# Altium footprint library con-phoenix-508.PCBLIB: 90 footprints (part 3 of 6)
Each footprint in its own frame and in the unit in brackets; x right, y up, seen from the top. Pads: shape width x height; smd on the part's side, far side on the other; paste and mask are expansions set on the pad; w line width, h text height; cw(c..) or ccw(c..) is an arc to the next point about the centre after c.
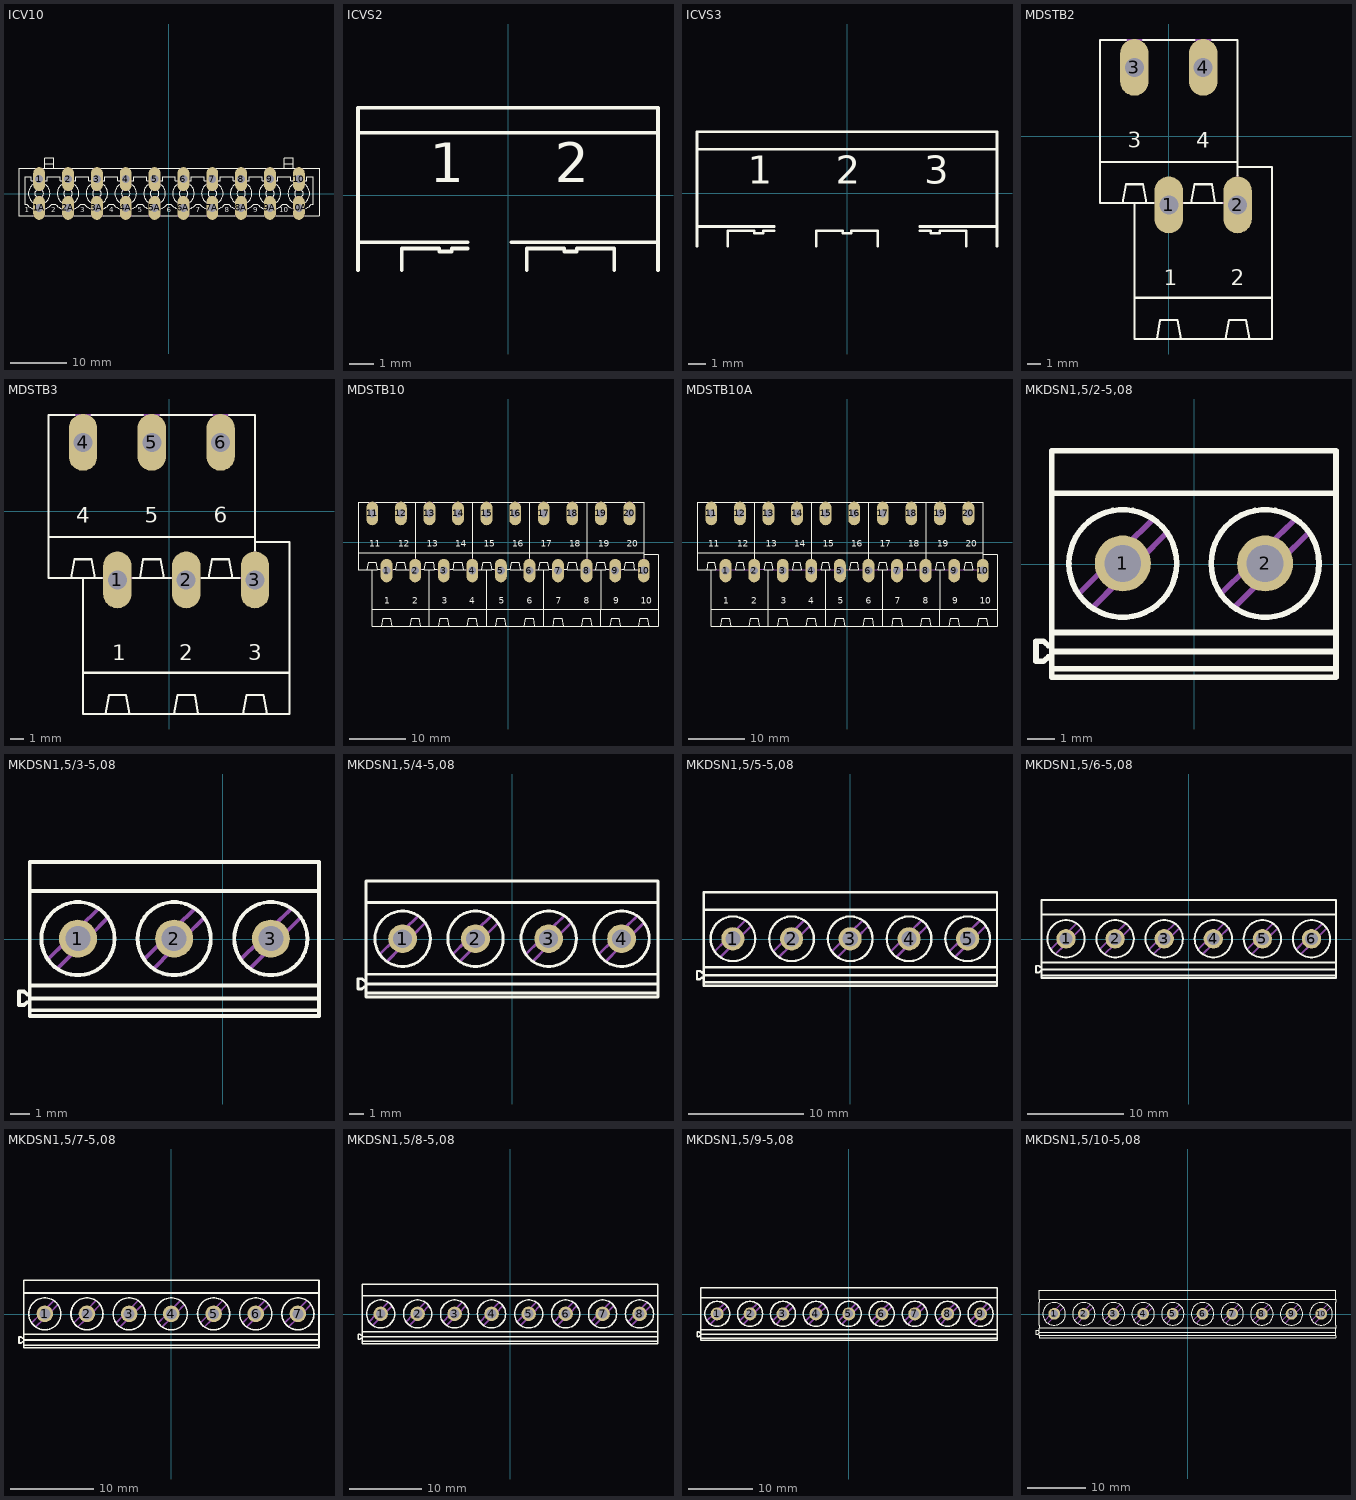
[diagram p2: the footprints below, top view; thin cyan lines are the x and y axes]

## ICV10 [mil]
pads (20):
  oval 82.5x165 hole 55: 1(-900,100) 1A(-900,-100) 2(-700,100) 2A(-700,-100) 3(-500,100) 3A(-500,-100) 4(-300,100) 4A(-300,-100) 5(-100,100) 5A(-100,-100) 6(100,100) 6A(100,-100) 7(300,100) 7A(300,-100) 8(500,100) 8A(500,-100) 9(700,100) 9A(700,-100) 10(900,100) 10A(900,-100)
Top Overlay:
  drawing of 164 lines, arcs and shapes, not listed
  text "1" at -1000,-145 h62
  text "2" at -815,-145 h62
  text "3" at -615,-145 h62
  text "4" at -415,-145 h62
  text "5" at -215,-145 h62
  text "6" at -15,-145 h62
  text "7" at 185,-145 h62
  text "8" at 385,-145 h62
  text "9" at 585,-145 h62
  text "10" at 765,-145 h62
Courtyard Bottom:
  lines w6: -943,-155 -857,-155 ; -943,-106.66 ccw(c-900,0) -857,-106.66 ; -943,-61.45 ccw(c-900,0) -857,-61.45 ; -943,62 cw(c-900,0.55) -857,62 ; -943,90 -857,90 ; -926,175 -874,175 ; -921.71,-20.71 ccw(c-900,0) -878.29,-20.71 ; -921.71,21 cw(c-900,0.29) -878.29,21 ; -743,-155 -657,-155 ; -743,-106.66 ccw(c-700,0) -657,-106.66 ; -743,-61.45 ccw(c-700,0) -657,-61.45 ; -743,62 cw(c-700,0.55) -657,62 ; -743,90 -657,90 ; -726,175 -674,175 ; -721.71,-20.71 ccw(c-700,0) -678.29,-20.71 ; -721.71,21 cw(c-700,0.29) -678.29,21 ; -543,-155 -457,-155 ; -543,-106.66 ccw(c-500,0) -457,-106.66 ; -543,-61.45 ccw(c-500,0) -457,-61.45 ; -543,62 cw(c-500,0.55) -457,62 ; -543,90 -457,90 ; -526,175 -474,175 ; -521.71,-20.71 ccw(c-500,0) -478.29,-20.71 ; -521.71,21 cw(c-500,0.29) -478.29,21 ; -343,-155 -257,-155 ; -343,-106.66 ccw(c-300,0) -257,-106.66 ; -343,-61.45 ccw(c-300,0) -257,-61.45 ; -343,62 cw(c-300,0.55) -257,62 ; -343,90 -257,90 ; -326,175 -274,175 ; -321.71,-20.71 ccw(c-300,0) -278.29,-20.71 ; -321.71,21 cw(c-300,0.29) -278.29,21 ; -143,-155 -57,-155 ; -143,-106.66 ccw(c-100,0) -57,-106.66 ; -143,-61.45 ccw(c-100,0) -57,-61.45 ; -143,62 cw(c-100,0.55) -57,62 ; -143,90 -57,90 ; -126,175 -74,175 ; -121.71,-20.71 ccw(c-100,0) -78.29,-20.71 ; -121.71,21 cw(c-100,0.29) -78.29,21 ; 57,-155 143,-155 ; 57,-106.66 ccw(c100,0) 143,-106.66 ; 57,-61.45 ccw(c100,0) 143,-61.45 ; 57,62 cw(c100,0.55) 143,62 ; 57,90 143,90 ; 74,175 126,175 ; 79,-20.71 ccw(c100.5,-0.2) 122,-20.71 ; 79,21 cw(c100.5,0.49) 122,21 ; 257,-155 343,-155 ; 257,-106.66 ccw(c300,0) 343,-106.66 ; 257,-61.45 ccw(c300,0) 343,-61.45 ; 257,62 cw(c300,0.55) 343,62 ; 257,90 343,90 ; 274,175 326,175 ; 279,-20.71 ccw(c300.5,-0.2) 322,-20.71 ; 279,21 cw(c300.5,0.49) 322,21 ; 457,-155 543,-155 ; 457,-106.66 ccw(c500,0) 543,-106.66 ; 457,-61.45 ccw(c500,0) 543,-61.45 ; 457,62 cw(c500,0.55) 543,62 ; 457,90 543,90 ; 474,175 526,175 ; 479,-20.71 ccw(c500.5,-0.2) 522,-20.71 ; 479,21 cw(c500.5,0.49) 522,21 ; 657,-155 743,-155 ; 657,-106.66 ccw(c700,0) 743,-106.66 ; 657,-61.45 ccw(c700,0) 743,-61.45 ; 657,62 cw(c700,0.55) 743,62 ; 657,90 743,90 ; 674,175 726,175 ; 679,-20.71 ccw(c700.5,-0.2) 722,-20.71 ; 679,21 cw(c700.5,0.49) 722,21 ; 857,-155 943,-155 ; 857,-106.66 ccw(c900,0) 943,-106.66 ; 857,-61.45 ccw(c900,0) 943,-61.45 ; 857,62 cw(c900,0.55) 943,62 ; 857,90 943,90 ; 874,175 926,175 ; 879,-20.71 ccw(c900.5,-0.2) 922,-20.71 ; 879,21 cw(c900.5,0.49) 922,21

## ICVS2 [mil]
Top Overlay:
  lines w6: -240,-120 -240,-75 ; -170,-120 -170,-85 -110,-85 -110,-90 -90,-90 -90,-85 -65,-85 ; -65,-75 -240,-75 ; 5,-75 240,-75 ; 30,-120 30,-85 90,-85 90,-90 110,-90 110,-85 170,-85 170,-120 ; 240,-120 240,-75 ; -240,-75 -240,100 ; -240,100 -240,140 240,140 240,100 ; -240,100 240,100 ; 240,-75 240,100
  text "1" at -125,0 h108.5
  text "2" at 75,0 h108.5

## ICVS3 [mil]
Top Overlay:
  lines w6: -340,-120 -340,-75 ; -270,-120 -270,-85 -210,-85 -210,-90 -190,-90 -190,-85 -165,-85 ; -165,-75 -340,-75 ; -70,-120 -70,-85 -10,-85 -10,-90 10,-90 10,-85 70,-85 70,-120 ; 165,-85 190,-85 190,-90 210,-90 210,-85 270,-85 270,-120 ; 165,-75 340,-75 ; 340,-120 340,-75 ; -340,-75 -340,100 ; -340,100 -340,140 340,140 340,100 ; -340,100 340,100 ; 340,-75 340,100
  text "1" at -225,0 h108.5
  text "2" at -25,0 h108.5
  text "3" at 175,0 h108.5

## MDSTB2 [mil]
pads (4):
  oval 82.5x165 hole 55: 1(0,-200) 2(200,-200) 3(-100,200) 4(100,200)
Top Overlay:
  lines w6: -125,280 -200,280 -200,-75 ; -75,280 75,280 ; -45,-195 -65,-195 ; 45,-195 65,-195 ; 125,280 200,280 200,-75 ; 155,-195 135,-195 ; 200,-115 200,-90 ; -200,-75 -200,-195 -135,-195 ; -200,-75 200,-75 ; -135,-195 -100,-195 ; -135,-195 -125,-140 -75,-140 -65,-195 ; -100,-470 -100,-590 -35,-590 ; -100,-470 -100,-195 ; -100,-470 300,-470 ; -100,-195 -65,-195 ; -35,-590 35,-590 ; -35,-590 -25,-535 25,-535 35,-590 ; 35,-590 165,-590 ; 65,-195 135,-195 ; 65,-195 75,-140 125,-140 135,-195 ; 165,-590 235,-590 ; 165,-590 175,-535 225,-535 235,-590 ; 200,-90 200,-75 ; 200,-90 300,-90 300,-470 ; 235,-590 300,-590 300,-470
  text "1" at -15,-450 h77.5
  text "2" at 180,-450 h77.5
  text "3" at -120,-50 h77.5
  text "4" at 80,-50 h77.5
Courtyard Bottom:
  lines w6: -125,280 -75,280 ; -45,-195 45,-195 ; 75,280 125,280 ; 155,-195 200,-195 200,-115

## MDSTB3 [mil]
pads (6):
  oval 82.5x165 hole 55: 1(-150,-200) 2(50,-200) 3(250,-200) 4(-250,200) 5(-50,200) 6(150,200)
Top Overlay:
  lines w6: -275,280 -350,280 -350,-75 ; -225,280 -75,280 ; -195,-195 -215,-195 ; -105,-195 -85,-195 ; -25,280 125,280 ; 5,-195 -15,-195 ; 95,-195 115,-195 ; 175,280 250,280 250,-75 ; 205,-195 185,-195 ; 250,-115 250,-90 ; -350,-75 -350,-195 -285,-195 ; -350,-75 250,-75 ; -285,-195 -250,-195 ; -285,-195 -275,-140 -225,-140 -215,-195 ; -250,-470 -250,-590 -185,-590 ; -250,-470 -250,-195 ; -250,-470 350,-470 ; -250,-195 -215,-195 ; -185,-590 -115,-590 ; -185,-590 -175,-535 -125,-535 -115,-590 ; -115,-590 15,-590 ; -85,-195 -15,-195 ; -85,-195 -75,-140 -25,-140 -15,-195 ; 15,-590 85,-590 ; 15,-590 25,-535 75,-535 85,-590 ; 85,-590 215,-590 ; 115,-195 185,-195 ; 115,-195 125,-140 175,-140 185,-195 ; 215,-590 285,-590 ; 215,-590 225,-535 275,-535 285,-590 ; 250,-90 250,-75 ; 250,-90 350,-90 350,-470 ; 285,-590 350,-590 350,-470
  text "1" at -165,-450 h77.5
  text "2" at 30,-450 h77.5
  text "3" at 230,-450 h77.5
  text "5" at -70,-50 h77.5
  text "4" at -270,-50 h77.5
  text "6" at 130,-50 h77.5
Courtyard Bottom:
  lines w6: -275,280 -225,280 ; -195,-195 -105,-195 ; -75,280 -25,280 ; 5,-195 95,-195 ; 125,280 175,280 ; 205,-195 250,-195 250,-115

## MDSTB10 [mil]
pads (20):
  oval 82.5x165 hole 55: 1(-850,-200) 2(-650,-200) 3(-450,-200) 4(-250,-200) 5(-50,-200) 6(150,-200) 7(350,-200) 8(550,-200) 9(750,-200) 10(950,-200) 11(-950,200) 12(-750,200) 13(-550,200) 14(-350,200) 15(-150,200) 16(50,200) 17(250,200) 18(450,200) 19(650,200) 20(850,200)
Top Overlay:
  drawing of 171 lines, arcs and shapes, not listed
  text "1" at -865,-450 h77.5
  text "2" at -670,-450 h77.5
  text "3" at -465,-450 h77.5
  text "4" at -270,-450 h77.5
  text "5" at -65,-450 h77.5
  text "6" at 130,-450 h77.5
  text "7" at 335,-450 h77.5
  text "8" at 530,-450 h77.5
  text "9" at 735,-450 h77.5
  text "10" at 930,-450 h77.5
  text "11" at -970,-50 h77.5
  text "12" at -770,-50 h77.5
  text "13" at -570,-50 h77.5
  text "14" at -370,-50 h77.5
  text "15" at -170,-50 h77.5
  text "16" at 30,-50 h77.5
  text "17" at 230,-50 h77.5
  text "18" at 430,-50 h77.5
  text "19" at 630,-50 h77.5
  text "20" at 830,-50 h77.5
Courtyard Bottom:
  lines w6: -975,280 -925,280 ; -895,-195 -805,-195 ; -775,280 -725,280 ; -695,-195 -650,-195 ; -650,-115 -650,-195 ; -605,-195 -650,-195 ; -575,280 -525,280 ; -495,-195 -405,-195 ; -375,280 -325,280 ; -295,-195 -250,-195 ; -250,-115 -250,-195 ; -205,-195 -250,-195 ; -175,280 -125,280 ; -95,-195 -5,-195 ; 25,280 75,280 ; 105,-195 150,-195 ; 150,-115 150,-195 ; 195,-195 150,-195 ; 225,280 275,280 ; 305,-195 395,-195 ; 425,280 475,280 ; 505,-195 550,-195 ; 550,-115 550,-195 ; 600,-195 550,-195 ; 625,280 675,280 ; 705,-195 795,-195 ; 825,280 875,280 ; 905,-195 950,-195 950,-115

## MDSTB10A [mil]
pads (20):
  oval 82.5x165 hole 55: 1(-850,-200) 2(-650,-200) 3(-450,-200) 4(-250,-200) 5(-50,-200) 6(150,-200) 7(350,-200) 8(550,-200) 9(750,-200) 10(950,-200) 11(-950,200) 12(-750,200) 13(-550,200) 14(-350,200) 15(-150,200) 16(50,200) 17(250,200) 18(450,200) 19(650,200) 20(850,200)
Top Overlay:
  lines w6: -650,-125 -650,-75 ; -250,-125 -250,-75 ; 150,-125 150,-75 ; 550,-125 550,-75 ; 950,-125 950,-90 ; -1050,-75 -1050,280 -650,280 ; -1050,-75 -1050,-195 -980,-195 ; -1050,-75 -650,-75 ; -980,-195 -950,-195 ; -980,-195 -970,-140 -930,-140 -920,-195 -950,-195 ; -950,-470 -950,-590 -885,-590 ; -950,-470 -950,-195 ; -950,-470 -550,-470 ; -885,-590 -815,-590 ; -885,-590 -875,-535 -825,-535 -815,-590 ; -815,-590 -685,-590 ; -685,-590 -615,-590 ; -685,-590 -675,-535 -625,-535 -615,-590 ; -650,-75 -650,280 ; -650,-75 -250,-75 ; -650,280 -250,280 ; -615,-590 -550,-590 ; -550,-590 -485,-590 ; -550,-590 -550,-470 ; -550,-470 -550,-195 ; -550,-470 -150,-470 ; -550,-195 -580,-195 -570,-140 -530,-140 -520,-195 -550,-195 ; -485,-590 -415,-590 ; -485,-590 -475,-535 -425,-535 -415,-590 ; -415,-590 -285,-590 ; -285,-590 -215,-590 ; -285,-590 -275,-535 -225,-535 -215,-590 ; -250,-75 -250,280 ; -250,-75 150,-75 ; -250,280 150,280 ; -215,-590 -150,-590 ; -150,-590 -85,-590 ; -150,-590 -150,-470 ; -150,-470 -150,-195 ; -150,-470 250,-470 ; -150,-195 -180,-195 -170,-140 -130,-140 -120,-195 -150,-195 ; -85,-590 -15,-590 ; -85,-590 -75,-535 -25,-535 -15,-590 ; -15,-590 115,-590 ; 115,-590 185,-590 ; 115,-590 125,-535 175,-535 185,-590 ; 150,-75 150,280 ; 150,-75 550,-75 ; 150,280 550,280 ; 185,-590 250,-590 ; 250,-590 315,-590 ; 250,-590 250,-470 ; 250,-470 250,-195 ; 250,-470 650,-470 ; 250,-195 220,-195 230,-140 270,-140 280,-195 250,-195 ; 315,-590 385,-590 ; 315,-590 325,-535 375,-535 385,-590 ; 385,-590 515,-590 ; 515,-590 585,-590 ; 515,-590 525,-535 575,-535 585,-590 ; 550,-75 550,280 ; 550,-75 950,-75 ; 550,280 950,280 950,-75 ; 585,-590 650,-590 ; 650,-590 715,-590 ; 650,-590 650,-470 ; 650,-470 650,-195 ; 650,-470 1050,-470 ; 650,-195 620,-195 630,-140 670,-140 680,-195 650,-195 ; 715,-590 785,-590 ; 715,-590 725,-535 775,-535 785,-590 ; 785,-590 915,-590 ; 915,-590 985,-590 ; 915,-590 925,-535 975,-535 985,-590 ; 950,-90 950,-75 ; 950,-90 1050,-90 1050,-470 ; 985,-590 1050,-590 1050,-470 ; -780,-195 -720,-195 -730,-140 -770,-140 -780,-195 ; -380,-195 -320,-195 -330,-140 -370,-140 -380,-195 ; 20,-195 80,-195 70,-140 30,-140 20,-195 ; 420,-195 480,-195 470,-140 430,-140 420,-195 ; 820,-195 880,-195 870,-140 830,-140 820,-195
  text "1" at -865,-450 h77.5
  text "2" at -670,-450 h77.5
  text "3" at -465,-450 h77.5
  text "4" at -270,-450 h77.5
  text "5" at -65,-450 h77.5
  text "6" at 130,-450 h77.5
  text "7" at 335,-450 h77.5
  text "8" at 530,-450 h77.5
  text "9" at 735,-450 h77.5
  text "10" at 930,-450 h77.5
  text "11" at -970,-50 h77.5
  text "12" at -770,-50 h77.5
  text "13" at -570,-50 h77.5
  text "14" at -370,-50 h77.5
  text "15" at -170,-50 h77.5
  text "16" at 30,-50 h77.5
  text "17" at 230,-50 h77.5
  text "18" at 430,-50 h77.5
  text "19" at 630,-50 h77.5
  text "20" at 830,-50 h77.5
Courtyard Bottom:
  lines w6: -920,-195 -780,-195 ; -720,-195 -650,-195 ; -650,-125 -650,-195 ; -580,-195 -650,-195 ; -520,-195 -380,-195 ; -320,-195 -250,-195 ; -250,-125 -250,-195 ; -180,-195 -250,-195 ; -120,-195 20,-195 ; 80,-195 150,-195 ; 150,-125 150,-195 ; 220,-195 150,-195 ; 280,-195 420,-195 ; 480,-195 550,-195 ; 550,-125 550,-195 ; 620,-195 550,-195 ; 680,-195 820,-195 ; 880,-195 950,-195 950,-125

## MKDSN1,5/2-5,08 [mil]
pads (2):
  round 79 hole 52: 1(-100.83,1) 2(100,1)
Top Overlay:
  circle w8: c-100.83,1 r76
  circle w8: c100,1 r76
  lines w8: -200.83,-147.64 -200.83,-130.98 ; -200.83,-147.64 200,-147.64 ; -200.83,-147.64 -200.83,-159.45 200,-159.45 200,-147.64 ; -200.83,-130.98 -205.9,-130.98 -212.92,-136.89 -223.27,-136.89 -223.27,-108.78 -212.92,-108.78 -205.9,-114.69 -200.83,-114.69 ; -200.83,-130.98 -200.83,-123.15 ; -200.83,-123.15 -200.83,-114.69 ; -200.83,-123.15 200,-123.15 ; -200.83,-114.69 -200.83,-96.37 ; -200.83,-96.37 -200.83,-76.99 -200.83,81 -200.83,100 ; -200.83,-96.37 200,-96.37 ; -200.83,100 200,100 ; -200.83,100 -200.83,160 200,160 200,100 ; 200,-147.64 200,-123.15 ; 200,-123.15 200,-96.37 ; 200,-96.37 200,-76.99 200,81 200,100
Courtyard Bottom:
  lines w8: -162.56,-41.26 -125.99,-4.68 ; -143.07,-60.75 -107.13,-24.8 ; -58.59,63 -96.15,26 ; -39.1,44 -76.03,7 ; 38,-41.26 75,-4.68 ; 57,-60.75 93,-24.8 ; 142,63 104,26 ; 161,44 124,7 ; -125.99,-4.68 -100.83,21 -96.15,26 ; -125.99,-4.68 ccw(c-100.83,0) -107.13,-24.8 ; -107.13,-24.8 -100.83,-18.5 -76.03,7 ; -96.15,26 cw(c-100.94,0.77) -76.03,7 ; 75,-4.68 100,21 104,26 ; 75,-4.68 ccw(c99.73,-0.67) 93,-24.8 ; 93,-24.8 100,-18.5 124,7 ; 104,26 cw(c99.15,0.86) 124,7

## MKDSN1,5/3-5,08 [mil]
pads (3):
  round 79 hole 52: 1(-300.83,1) 2(-100.83,1) 3(100,1)
Top Overlay:
  circle w8: c-300.83,1 r76
  circle w8: c-100.83,1 r76
  circle w8: c100,1 r76
  lines w8: -400.83,-147.64 -400.83,-130.98 ; -400.83,-147.64 200,-147.64 ; -400.83,-147.64 -400.83,-159.45 200,-159.45 200,-147.64 ; -400.83,-130.98 -405.9,-130.98 -412.92,-136.89 -423.27,-136.89 -423.27,-108.78 -412.92,-108.78 -405.9,-114.69 -400.83,-114.69 ; -400.83,-130.98 -400.83,-123.15 ; -400.83,-123.15 -400.83,-114.69 ; -400.83,-123.15 200,-123.15 ; -400.83,-114.69 -400.83,-96.37 ; -400.83,-96.37 -400.83,-76.99 -400.83,81 -400.83,100 ; -400.83,-96.37 200,-96.37 ; -400.83,100 200,100 ; -400.83,100 -400.83,160 200,160 200,100 ; 200,-147.64 200,-123.15 ; 200,-123.15 200,-96.37 ; 200,-96.37 200,-76.99 200,81 200,100
Courtyard Bottom:
  lines w8: -362.56,-41.26 -325.99,-4.68 ; -343.07,-60.75 -307.13,-24.8 ; -258.59,63 -296.15,26 ; -239.1,44 -276.03,7 ; -162.56,-41.26 -125.99,-4.68 ; -143.07,-60.75 -107.13,-24.8 ; -58.59,63 -96.15,26 ; -39.1,44 -76.03,7 ; 38,-41.26 75,-4.68 ; 57,-60.75 93,-24.8 ; 142,63 104,26 ; 161,44 124,7 ; -325.99,-4.68 -300.83,21 -296.15,26 ; -325.99,-4.68 ccw(c-300.83,0) -307.13,-24.8 ; -307.13,-24.8 -300.83,-18.5 -276.03,7 ; -296.15,26 cw(c-300.94,0.77) -276.03,7 ; -125.99,-4.68 -100.83,21 -96.15,26 ; -125.99,-4.68 ccw(c-100.83,0) -107.13,-24.8 ; -107.13,-24.8 -100.83,-18.5 -76.03,7 ; -96.15,26 cw(c-100.94,0.77) -76.03,7 ; 75,-4.68 100,21 104,26 ; 75,-4.68 ccw(c99.73,-0.67) 93,-24.8 ; 93,-24.8 100,-18.5 124,7 ; 104,26 cw(c99.15,0.86) 124,7

## MKDSN1,5/4-5,08 [mil]
pads (4):
  round 79 hole 52: 1(-300.83,1) 2(-100.83,1) 3(100,1) 4(300,1)
Top Overlay:
  circle w8: c-300.83,1 r76
  circle w8: c-100.83,1 r76
  circle w8: c100,1 r76
  circle w8: c300,1 r76
  lines w8: -400.83,-147.64 -400.83,-130.98 ; -400.83,-147.64 400,-147.64 ; -400.83,-147.64 -400.83,-159.45 400,-159.45 400,-147.64 ; -400.83,-130.98 -405.9,-130.98 -412.92,-136.89 -423.27,-136.89 -423.27,-108.78 -412.92,-108.78 -405.9,-114.69 -400.83,-114.69 ; -400.83,-130.98 -400.83,-123.15 ; -400.83,-123.15 -400.83,-114.69 ; -400.83,-123.15 400,-123.15 ; -400.83,-114.69 -400.83,-96.37 ; -400.83,-96.37 -400.83,-76.99 -400.83,81 -400.83,100 ; -400.83,-96.37 400,-96.37 ; -400.83,100 400,100 ; -400.83,100 -400.83,160 400,160 400,100 ; 400,-147.64 400,-123.15 ; 400,-123.15 400,-96.37 ; 400,-96.37 400,-76.99 400,81 400,100
Courtyard Bottom:
  lines w8: -362.56,-41.26 -325.99,-4.68 ; -343.07,-60.75 -307.13,-24.8 ; -258.59,63 -296.15,26 ; -239.1,44 -276.03,7 ; -162.56,-41.26 -125.99,-4.68 ; -143.07,-60.75 -107.13,-24.8 ; -58.59,63 -96.15,26 ; -39.1,44 -76.03,7 ; 38,-41.26 75,-4.68 ; 57,-60.75 93,-24.8 ; 142,63 104,26 ; 161,44 124,7 ; 238,-41.26 275,-4.68 ; 257,-60.75 293,-24.8 ; 342,63 304,26 ; 361,44 324,7 ; -325.99,-4.68 -300.83,21 -296.15,26 ; -325.99,-4.68 ccw(c-300.83,0) -307.13,-24.8 ; -307.13,-24.8 -300.83,-18.5 -276.03,7 ; -296.15,26 cw(c-300.94,0.77) -276.03,7 ; -125.99,-4.68 -100.83,21 -96.15,26 ; -125.99,-4.68 ccw(c-100.83,0) -107.13,-24.8 ; -107.13,-24.8 -100.83,-18.5 -76.03,7 ; -96.15,26 cw(c-100.94,0.77) -76.03,7 ; 75,-4.68 100,21 104,26 ; 75,-4.68 ccw(c99.73,-0.67) 93,-24.8 ; 93,-24.8 100,-18.5 124,7 ; 104,26 cw(c99.15,0.86) 124,7 ; 275,-4.68 300,21 304,26 ; 275,-4.68 ccw(c299.73,-0.67) 293,-24.8 ; 293,-24.8 300,-18.5 324,7 ; 304,26 cw(c299.15,0.86) 324,7

## MKDSN1,5/5-5,08 [mil]
pads (5):
  round 79 hole 52: 1(-400.83,1) 2(-200.83,1) 3(-0.83,1) 4(200,1) 5(400,1)
Top Overlay:
  circle w8: c-400.83,1 r76
  circle w8: c-200.83,1 r76
  circle w8: c-0.83,1 r76
  circle w8: c200,1 r76
  circle w8: c400,1 r76
  lines w8: -500.83,-147.64 -500.83,-130.98 ; -500.83,-147.64 500,-147.64 ; -500.83,-147.64 -500.83,-159.45 500,-159.45 500,-147.64 ; -500.83,-130.98 -505.9,-130.98 -512.92,-136.89 -523.27,-136.89 -523.27,-108.78 -512.92,-108.78 -505.9,-114.69 -500.83,-114.69 ; -500.83,-130.98 -500.83,-123.15 ; -500.83,-123.15 -500.83,-114.69 ; -500.83,-123.15 500,-123.15 ; -500.83,-114.69 -500.83,-96.37 ; -500.83,-96.37 -500.83,-76.99 -500.83,81 -500.83,100 ; -500.83,-96.37 500,-96.37 ; -500.83,100 500,100 ; -500.83,100 -500.83,160 500,160 500,100 ; 500,-147.64 500,-123.15 ; 500,-123.15 500,-96.37 ; 500,-96.37 500,-76.99 500,81 500,100
Courtyard Bottom:
  lines w8: -462.56,-41.26 -425.99,-4.68 ; -443.07,-60.75 -407.13,-24.8 ; -358.59,63 -396.15,26 ; -339.1,44 -376.03,7 ; -262.56,-41.26 -225.99,-4.68 ; -243.07,-60.75 -207.13,-24.8 ; -158.59,63 -196.15,26 ; -139.1,44 -176.03,7 ; -62.56,-41.26 -25.99,-4.68 ; -43.07,-60.75 -7.13,-24.8 ; 42,63 4,26 ; 61,44 24,7 ; 138,-41.26 175,-4.68 ; 157,-60.75 193,-24.8 ; 242,63 204,26 ; 261,44 224,7 ; 338,-41.26 375,-4.68 ; 357,-60.75 393,-24.8 ; 442,63 404,26 ; 461,44 424,7 ; -425.99,-4.68 -400.83,21 -396.15,26 ; -425.99,-4.68 ccw(c-400.83,0) -407.13,-24.8 ; -407.13,-24.8 -400.83,-18.5 -376.03,7 ; -396.15,26 cw(c-400.94,0.77) -376.03,7 ; -225.99,-4.68 -200.83,21 -196.15,26 ; -225.99,-4.68 ccw(c-200.83,0) -207.13,-24.8 ; -207.13,-24.8 -200.83,-18.5 -176.03,7 ; -196.15,26 cw(c-200.94,0.77) -176.03,7 ; -25.99,-4.68 -0.83,21 4,26 ; -25.99,-4.68 ccw(c-0.83,0) -7.13,-24.8 ; -7.13,-24.8 -0.83,-18.5 24,7 ; 4,26 cw(c-0.85,0.86) 24,7 ; 175,-4.68 200,21 204,26 ; 175,-4.68 ccw(c199.73,-0.67) 193,-24.8 ; 193,-24.8 200,-18.5 224,7 ; 204,26 cw(c199.15,0.86) 224,7 ; 375,-4.68 400,21 404,26 ; 375,-4.68 ccw(c399.73,-0.67) 393,-24.8 ; 393,-24.8 400,-18.5 424,7 ; 404,26 cw(c399.15,0.86) 424,7

## MKDSN1,5/6-5,08 [mil]
pads (6):
  round 79 hole 52: 1(-500,1) 2(-300,1) 3(-100,1) 4(100,1) 5(300,1) 6(500,1)
Top Overlay:
  circle w8: c-500,1 r76
  circle w8: c-300,1 r76
  circle w8: c-100,1 r76
  circle w8: c100,1 r76
  circle w8: c300,1 r76
  circle w8: c500,1 r76
  lines w8: -600,-147.64 -600,-130.98 ; -600,-147.64 600,-147.64 ; -600,-147.64 -600,-159.45 600,-159.45 600,-147.64 ; -600,-130.98 -605.07,-130.98 -612.09,-136.89 -622.44,-136.89 -622.44,-108.78 -612.09,-108.78 -605.07,-114.69 -600,-114.69 ; -600,-130.98 -600,-123.15 ; -600,-123.15 -600,-114.69 ; -600,-123.15 600,-123.15 ; -600,-114.69 -600,-96.37 ; -600,-96.37 -600,-76.99 -600,81 -600,100 ; -600,-96.37 600,-96.37 ; -600,100 600,100 ; -600,100 -600,160 600,160 600,100 ; 600,-147.64 600,-123.15 ; 600,-123.15 600,-96.37 ; 600,-96.37 600,-76.99 600,81 600,100
Courtyard Bottom:
  lines w8: -561.73,-41.26 -525.16,-4.68 ; -542.24,-60.75 -506.3,-24.8 ; -457.76,63 -495.31,26 ; -438.27,44 -475.2,7 ; -361.73,-41.26 -325.16,-4.68 ; -342.24,-60.75 -306.3,-24.8 ; -257.76,63 -295.31,26 ; -238.27,44 -275.2,7 ; -161.73,-41.26 -125.16,-4.68 ; -142.24,-60.75 -106.3,-24.8 ; -57.76,63 -95.31,26 ; -38.27,44 -75.2,7 ; 39,-41.26 75,-4.68 ; 58,-60.75 94,-24.8 ; 143,63 105,26 ; 162,44 125,7 ; 239,-41.26 275,-4.68 ; 258,-60.75 294,-24.8 ; 343,63 305,26 ; 362,44 325,7 ; 439,-41.26 475,-4.68 ; 458,-60.75 494,-24.8 ; 543,63 505,26 ; 562,44 525,7 ; -525.16,-4.68 -500,21 -495.31,26 ; -525.16,-4.68 ccw(c-500,0) -506.3,-24.8 ; -506.3,-24.8 -500,-18.5 -475.2,7 ; -495.32,26 cw(c-500.11,0.77) -475.2,7 ; -325.16,-4.68 -300,21 -295.31,26 ; -325.16,-4.68 ccw(c-300,0) -306.3,-24.8 ; -306.3,-24.8 -300,-18.5 -275.2,7 ; -295.32,26 cw(c-300.11,0.77) -275.2,7 ; -125.16,-4.68 -100,21 -95.31,26 ; -125.16,-4.68 ccw(c-100,0) -106.3,-24.8 ; -106.3,-24.8 -100,-18.5 -75.2,7 ; -95.32,26 cw(c-100.11,0.77) -75.2,7 ; 75,-4.68 100,21 105,26 ; 75,-4.68 ccw(c100.23,0.11) 94,-24.8 ; 94,-24.8 100,-18.5 125,7 ; 105,26 cw(c100.15,0.86) 125,7 ; 275,-4.68 300,21 305,26 ; 275,-4.68 ccw(c300.23,0.11) 294,-24.8 ; 294,-24.8 300,-18.5 325,7 ; 305,26 cw(c300.15,0.86) 325,7 ; 475,-4.68 500,21 505,26 ; 475,-4.68 ccw(c500.23,0.11) 494,-24.8 ; 494,-24.8 500,-18.5 525,7 ; 505,26 cw(c500.15,0.86) 525,7

## MKDSN1,5/7-5,08 [mil]
pads (7):
  round 79 hole 52: 1(-600.83,1) 2(-400.83,1) 3(-200.83,1) 4(-0.83,1) 5(200,1) 6(400,1) 7(600,1)
Top Overlay:
  circle w8: c-600.83,1 r76
  circle w8: c-400.83,1 r76
  circle w8: c-200.83,1 r76
  circle w8: c-0.83,1 r76
  circle w8: c200,1 r76
  circle w8: c400,1 r76
  circle w8: c600,1 r76
  lines w8: -700.83,-147.64 -700.83,-130.98 ; -700.83,-147.64 700,-147.64 ; -700.83,-147.64 -700.83,-159.45 700,-159.45 700,-147.64 ; -700.83,-130.98 -705.9,-130.98 -712.92,-136.89 -723.27,-136.89 -723.27,-108.78 -712.92,-108.78 -705.9,-114.69 -700.83,-114.69 ; -700.83,-130.98 -700.83,-123.15 ; -700.83,-123.15 -700.83,-114.69 ; -700.83,-123.15 700,-123.15 ; -700.83,-114.69 -700.83,-96.37 ; -700.83,-96.37 -700.83,-76.99 -700.83,81 -700.83,100 ; -700.83,-96.37 700,-96.37 ; -700.83,100 700,100 ; -700.83,100 -700.83,160 700,160 700,100 ; 700,-147.64 700,-123.15 ; 700,-123.15 700,-96.37 ; 700,-96.37 700,-76.99 700,81 700,100
Courtyard Bottom:
  lines w8: -662.56,-41.26 -625.99,-4.68 ; -643.07,-60.75 -607.13,-24.8 ; -558.59,63 -596.15,26 ; -539.1,44 -576.03,7 ; -462.56,-41.26 -425.99,-4.68 ; -443.07,-60.75 -407.13,-24.8 ; -358.59,63 -396.15,26 ; -339.1,44 -376.03,7 ; -262.56,-41.26 -225.99,-4.68 ; -243.07,-60.75 -207.13,-24.8 ; -158.59,63 -196.15,26 ; -139.1,44 -176.03,7 ; -62.56,-41.26 -25.99,-4.68 ; -43.07,-60.75 -7.13,-24.8 ; 42,63 4,26 ; 61,44 24,7 ; 138,-41.26 175,-4.68 ; 157,-60.75 193,-24.8 ; 242,63 204,26 ; 261,44 224,7 ; 338,-41.26 375,-4.68 ; 357,-60.75 393,-24.8 ; 442,63 404,26 ; 461,44 424,7 ; 538,-41.26 575,-4.68 ; 557,-60.75 593,-24.8 ; 642,63 604,26 ; 661,44 624,7 ; -625.99,-4.68 -600.83,21 -596.15,26 ; -625.99,-4.68 ccw(c-600.83,0) -607.13,-24.8 ; -607.13,-24.8 -600.83,-18.5 -576.03,7 ; -596.15,26 cw(c-600.94,0.77) -576.03,7 ; -425.99,-4.68 -400.83,21 -396.15,26 ; -425.99,-4.68 ccw(c-400.83,0) -407.13,-24.8 ; -407.13,-24.8 -400.83,-18.5 -376.03,7 ; -396.15,26 cw(c-400.94,0.77) -376.03,7 ; -225.99,-4.68 -200.83,21 -196.15,26 ; -225.99,-4.68 ccw(c-200.83,0) -207.13,-24.8 ; -207.13,-24.8 -200.83,-18.5 -176.03,7 ; -196.15,26 cw(c-200.94,0.77) -176.03,7 ; -25.99,-4.68 -0.83,21 4,26 ; -25.99,-4.68 ccw(c-0.83,0) -7.13,-24.8 ; -7.13,-24.8 -0.83,-18.5 24,7 ; 4,26 cw(c-0.85,0.86) 24,7 ; 175,-4.68 200,21 204,26 ; 175,-4.68 ccw(c199.73,-0.67) 193,-24.8 ; 193,-24.8 200,-18.5 224,7 ; 204,26 cw(c199.15,0.86) 224,7 ; 375,-4.68 400,21 404,26 ; 375,-4.68 ccw(c399.73,-0.67) 393,-24.8 ; 393,-24.8 400,-18.5 424,7 ; 404,26 cw(c399.15,0.86) 424,7 ; 575,-4.68 600,21 604,26 ; 575,-4.68 ccw(c599.73,-0.67) 593,-24.8 ; 593,-24.8 600,-18.5 624,7 ; 604,26 cw(c599.15,0.86) 624,7

## MKDSN1,5/8-5,08 [mil]
pads (8):
  round 79 hole 52: 1(-700.83,1) 2(-500.83,1) 3(-300.83,1) 4(-100.83,1) 5(100,1) 6(300,1) 7(500,1) 8(700,1)
Top Overlay:
  circle w8: c-700.83,1 r76
  circle w8: c-500.83,1 r76
  circle w8: c-300.83,1 r76
  circle w8: c-100.83,1 r76
  circle w8: c100,1 r76
  circle w8: c300,1 r76
  circle w8: c500,1 r76
  circle w8: c700,1 r76
  lines w8: -800.83,-147.64 -800.83,-130.98 ; -800.83,-147.64 800,-147.64 ; -800.83,-147.64 -800.83,-159.45 800,-159.45 800,-147.64 ; -800.83,-130.98 -805.9,-130.98 -812.92,-136.89 -823.27,-136.89 -823.27,-108.78 -812.92,-108.78 -805.9,-114.69 -800.83,-114.69 ; -800.83,-130.98 -800.83,-123.15 ; -800.83,-123.15 -800.83,-114.69 ; -800.83,-123.15 800,-123.15 ; -800.83,-114.69 -800.83,-96.37 ; -800.83,-96.37 -800.83,-76.99 -800.83,81 -800.83,100 ; -800.83,-96.37 800,-96.37 ; -800.83,100 800,100 ; -800.83,100 -800.83,160 800,160 800,100 ; 800,-147.64 800,-123.15 ; 800,-123.15 800,-96.37 ; 800,-96.37 800,-76.99 800,81 800,100
Courtyard Bottom:
  lines w8: -762.56,-41.26 -725.99,-4.68 ; -743.07,-60.75 -707.13,-24.8 ; -658.59,63 -696.15,26 ; -639.1,44 -676.03,7 ; -562.56,-41.26 -525.99,-4.68 ; -543.07,-60.75 -507.13,-24.8 ; -458.59,63 -496.15,26 ; -439.1,44 -476.03,7 ; -362.56,-41.26 -325.99,-4.68 ; -343.07,-60.75 -307.13,-24.8 ; -258.59,63 -296.15,26 ; -239.1,44 -276.03,7 ; -162.56,-41.26 -125.99,-4.68 ; -143.07,-60.75 -107.13,-24.8 ; -58.59,63 -96.15,26 ; -39.1,44 -76.03,7 ; 38,-41.26 75,-4.68 ; 57,-60.75 93,-24.8 ; 142,63 104,26 ; 161,44 124,7 ; 238,-41.26 275,-4.68 ; 257,-60.75 293,-24.8 ; 342,63 304,26 ; 361,44 324,7 ; 438,-41.26 475,-4.68 ; 457,-60.75 493,-24.8 ; 542,63 504,26 ; 561,44 524,7 ; 638,-41.26 675,-4.68 ; 657,-60.75 693,-24.8 ; 742,63 704,26 ; 761,44 724,7 ; -725.99,-4.68 -700.83,21 -696.15,26 ; -725.99,-4.68 ccw(c-700.83,0) -707.13,-24.8 ; -707.13,-24.8 -700.83,-18.5 -676.03,7 ; -696.15,26 cw(c-700.94,0.77) -676.03,7 ; -525.99,-4.68 -500.83,21 -496.15,26 ; -525.99,-4.68 ccw(c-500.83,0) -507.13,-24.8 ; -507.13,-24.8 -500.83,-18.5 -476.03,7 ; -496.15,26 cw(c-500.94,0.77) -476.03,7 ; -325.99,-4.68 -300.83,21 -296.15,26 ; -325.99,-4.68 ccw(c-300.83,0) -307.13,-24.8 ; -307.13,-24.8 -300.83,-18.5 -276.03,7 ; -296.15,26 cw(c-300.94,0.77) -276.03,7 ; -125.99,-4.68 -100.83,21 -96.15,26 ; -125.99,-4.68 ccw(c-100.83,0) -107.13,-24.8 ; -107.13,-24.8 -100.83,-18.5 -76.03,7 ; -96.15,26 cw(c-100.94,0.77) -76.03,7 ; 75,-4.68 100,21 104,26 ; 75,-4.68 ccw(c99.73,-0.67) 93,-24.8 ; 93,-24.8 100,-18.5 124,7 ; 104,26 cw(c99.15,0.86) 124,7 ; 275,-4.68 300,21 304,26 ; 275,-4.68 ccw(c299.73,-0.67) 293,-24.8 ; 293,-24.8 300,-18.5 324,7 ; 304,26 cw(c299.15,0.86) 324,7 ; 475,-4.68 500,21 504,26 ; 475,-4.68 ccw(c499.73,-0.67) 493,-24.8 ; 493,-24.8 500,-18.5 524,7 ; 504,26 cw(c499.15,0.86) 524,7 ; 675,-4.68 700,21 704,26 ; 675,-4.68 ccw(c699.73,-0.67) 693,-24.8 ; 693,-24.8 700,-18.5 724,7 ; 704,26 cw(c699.15,0.86) 724,7

## MKDSN1,5/9-5,08 [mil]
pads (9):
  round 79 hole 52: 1(-800.83,1) 2(-600.83,1) 3(-400.83,1) 4(-200.83,1) 5(-0.83,1) 6(200,1) 7(400,1) 8(600,1) 9(800,1)
Top Overlay:
  circle w8: c-800.83,1 r76
  circle w8: c-600.83,1 r76
  circle w8: c-400.83,1 r76
  circle w8: c-200.83,1 r76
  circle w8: c-0.83,1 r76
  circle w8: c200,1 r76
  circle w8: c400,1 r76
  circle w8: c600,1 r76
  circle w8: c800,1 r76
  lines w8: -900.83,-147.64 -900.83,-130.98 ; -900.83,-147.64 900,-147.64 ; -900.83,-147.64 -900.83,-159.45 900,-159.45 900,-147.64 ; -900.83,-130.98 -905.9,-130.98 -912.92,-136.89 -923.27,-136.89 -923.27,-108.78 -912.92,-108.78 -905.9,-114.69 -900.83,-114.69 ; -900.83,-130.98 -900.83,-123.15 ; -900.83,-123.15 -900.83,-114.69 ; -900.83,-123.15 900,-123.15 ; -900.83,-114.69 -900.83,-96.37 ; -900.83,-96.37 -900.83,-76.99 -900.83,81 -900.83,100 ; -900.83,-96.37 900,-96.37 ; -900.83,100 900,100 ; -900.83,100 -900.83,160 900,160 900,100 ; 900,-147.64 900,-123.15 ; 900,-123.15 900,-96.37 ; 900,-96.37 900,-76.99 900,81 900,100
Courtyard Bottom:
  lines w8: -862.56,-41.26 -825.99,-4.68 ; -843.07,-60.75 -807.13,-24.8 ; -758.59,63 -796.15,26 ; -739.1,44 -776.03,7 ; -662.56,-41.26 -625.99,-4.68 ; -643.07,-60.75 -607.13,-24.8 ; -558.59,63 -596.15,26 ; -539.1,44 -576.03,7 ; -462.56,-41.26 -425.99,-4.68 ; -443.07,-60.75 -407.13,-24.8 ; -358.59,63 -396.15,26 ; -339.1,44 -376.03,7 ; -262.56,-41.26 -225.99,-4.68 ; -243.07,-60.75 -207.13,-24.8 ; -158.59,63 -196.15,26 ; -139.1,44 -176.03,7 ; -62.56,-41.26 -25.99,-4.68 ; -43.07,-60.75 -7.13,-24.8 ; 42,63 4,26 ; 61,44 24,7 ; 138,-41.26 175,-4.68 ; 157,-60.75 193,-24.8 ; 242,63 204,26 ; 261,44 224,7 ; 338,-41.26 375,-4.68 ; 357,-60.75 393,-24.8 ; 442,63 404,26 ; 461,44 424,7 ; 538,-41.26 575,-4.68 ; 557,-60.75 593,-24.8 ; 642,63 604,26 ; 661,44 624,7 ; 738,-41.26 775,-4.68 ; 757,-60.75 793,-24.8 ; 842,63 804,26 ; 861,44 824,7 ; -825.99,-4.68 -800.83,21 -796.15,26 ; -825.99,-4.68 ccw(c-800.83,0) -807.13,-24.8 ; -807.13,-24.8 -800.83,-18.5 -776.03,7 ; -796.15,26 cw(c-800.94,0.77) -776.03,7 ; -625.99,-4.68 -600.83,21 -596.15,26 ; -625.99,-4.68 ccw(c-600.83,0) -607.13,-24.8 ; -607.13,-24.8 -600.83,-18.5 -576.03,7 ; -596.15,26 cw(c-600.94,0.77) -576.03,7 ; -425.99,-4.68 -400.83,21 -396.15,26 ; -425.99,-4.68 ccw(c-400.83,0) -407.13,-24.8 ; -407.13,-24.8 -400.83,-18.5 -376.03,7 ; -396.15,26 cw(c-400.94,0.77) -376.03,7 ; -225.99,-4.68 -200.83,21 -196.15,26 ; -225.99,-4.68 ccw(c-200.83,0) -207.13,-24.8 ; -207.13,-24.8 -200.83,-18.5 -176.03,7 ; -196.15,26 cw(c-200.94,0.77) -176.03,7 ; -25.99,-4.68 -0.83,21 4,26 ; -25.99,-4.68 ccw(c-0.83,0) -7.13,-24.8 ; -7.13,-24.8 -0.83,-18.5 24,7 ; 4,26 cw(c-0.85,0.86) 24,7 ; 175,-4.68 200,21 204,26 ; 175,-4.68 ccw(c199.73,-0.67) 193,-24.8 ; 193,-24.8 200,-18.5 224,7 ; 204,26 cw(c199.15,0.86) 224,7 ; 375,-4.68 400,21 404,26 ; 375,-4.68 ccw(c399.73,-0.67) 393,-24.8 ; 393,-24.8 400,-18.5 424,7 ; 404,26 cw(c399.15,0.86) 424,7 ; 575,-4.68 600,21 604,26 ; 575,-4.68 ccw(c599.73,-0.67) 593,-24.8 ; 593,-24.8 600,-18.5 624,7 ; 604,26 cw(c599.15,0.86) 624,7 ; 775,-4.68 800,21 804,26 ; 775,-4.68 ccw(c799.73,-0.67) 793,-24.8 ; 793,-24.8 800,-18.5 824,7 ; 804,26 cw(c799.15,0.86) 824,7

## MKDSN1,5/10-5,08 [mil]
pads (10):
  round 79 hole 52: 1(-900.83,1) 2(-700.83,1) 3(-500.83,1) 4(-300.83,1) 5(-100.83,1) 6(100,1) 7(300,1) 8(500,1) 9(700,1) 10(900,1)
Top Overlay:
  circle w8: c-900.83,1 r76
  circle w8: c-700.83,1 r76
  circle w8: c-500.83,1 r76
  circle w8: c-300.83,1 r76
  circle w8: c-100.83,1 r76
  circle w8: c100,1 r76
  circle w8: c300,1 r76
  circle w8: c500,1 r76
  circle w8: c700,1 r76
  circle w8: c900,1 r76
  lines w8: -1000.83,-147.64 -1000.83,-130.98 ; -1000.83,-147.64 1000,-147.64 ; -1000.83,-147.64 -1000.83,-159.45 1000,-159.45 1000,-147.64 ; -1000.83,-130.98 -1005.9,-130.98 -1012.92,-136.89 -1023.27,-136.89 -1023.27,-108.78 -1012.92,-108.78 -1005.9,-114.69 -1000.83,-114.69 ; -1000.83,-130.98 -1000.83,-123.15 ; -1000.83,-123.15 -1000.83,-114.69 ; -1000.83,-123.15 1000,-123.15 ; -1000.83,-114.69 -1000.83,-96.37 ; -1000.83,-96.37 -1000.83,-76.99 -1000.83,81 -1000.83,100 ; -1000.83,-96.37 1000,-96.37 ; -1000.83,100 1000,100 ; -1000.83,100 -1000.83,160 1000,160 1000,100 ; 1000,-147.64 1000,-123.15 ; 1000,-123.15 1000,-96.37 ; 1000,-96.37 1000,-76.99 1000,81 1000,100
Courtyard Bottom:
  lines w8: -962.56,-41.26 -925.99,-4.68 ; -943.07,-60.75 -907.13,-24.8 ; -858.59,63 -896.15,26 ; -839.1,44 -876.03,7 ; -762.56,-41.26 -725.99,-4.68 ; -743.07,-60.75 -707.13,-24.8 ; -658.59,63 -696.15,26 ; -639.1,44 -676.03,7 ; -562.56,-41.26 -525.99,-4.68 ; -543.07,-60.75 -507.13,-24.8 ; -458.59,63 -496.15,26 ; -439.1,44 -476.03,7 ; -362.56,-41.26 -325.99,-4.68 ; -343.07,-60.75 -307.13,-24.8 ; -258.59,63 -296.15,26 ; -239.1,44 -276.03,7 ; -162.56,-41.26 -125.99,-4.68 ; -143.07,-60.75 -107.13,-24.8 ; -58.59,63 -96.15,26 ; -39.1,44 -76.03,7 ; 38,-41.26 75,-4.68 ; 57,-60.75 93,-24.8 ; 142,63 104,26 ; 161,44 124,7 ; 238,-41.26 275,-4.68 ; 257,-60.75 293,-24.8 ; 342,63 304,26 ; 361,44 324,7 ; 438,-41.26 475,-4.68 ; 457,-60.75 493,-24.8 ; 542,63 504,26 ; 561,44 524,7 ; 638,-41.26 675,-4.68 ; 657,-60.75 693,-24.8 ; 742,63 704,26 ; 761,44 724,7 ; 838,-41.26 875,-4.68 ; 857,-60.75 893,-24.8 ; 942,63 904,26 ; 961,44 924,7 ; -925.99,-4.68 -900.83,21 -896.15,26 ; -925.99,-4.68 ccw(c-900.83,0) -907.13,-24.8 ; -907.13,-24.8 -900.83,-18.5 -876.03,7 ; -896.15,26 cw(c-900.94,0.77) -876.03,7 ; -725.99,-4.68 -700.83,21 -696.15,26 ; -725.99,-4.68 ccw(c-700.83,0) -707.13,-24.8 ; -707.13,-24.8 -700.83,-18.5 -676.03,7 ; -696.15,26 cw(c-700.94,0.77) -676.03,7 ; -525.99,-4.68 -500.83,21 -496.15,26 ; -525.99,-4.68 ccw(c-500.83,0) -507.13,-24.8 ; -507.13,-24.8 -500.83,-18.5 -476.03,7 ; -496.15,26 cw(c-500.94,0.77) -476.03,7 ; -325.99,-4.68 -300.83,21 -296.15,26 ; -325.99,-4.68 ccw(c-300.83,0) -307.13,-24.8 ; -307.13,-24.8 -300.83,-18.5 -276.03,7 ; -296.15,26 cw(c-300.94,0.77) -276.03,7 ; -125.99,-4.68 -100.83,21 -96.15,26 ; -125.99,-4.68 ccw(c-100.83,0) -107.13,-24.8 ; -107.13,-24.8 -100.83,-18.5 -76.03,7 ; -96.15,26 cw(c-100.94,0.77) -76.03,7 ; 75,-4.68 100,21 104,26 ; 75,-4.68 ccw(c99.73,-0.67) 93,-24.8 ; 93,-24.8 100,-18.5 124,7 ; 104,26 cw(c99.15,0.86) 124,7 ; 275,-4.68 300,21 304,26 ; 275,-4.68 ccw(c299.73,-0.67) 293,-24.8 ; 293,-24.8 300,-18.5 324,7 ; 304,26 cw(c299.15,0.86) 324,7 ; 475,-4.68 500,21 504,26 ; 475,-4.68 ccw(c499.73,-0.67) 493,-24.8 ; 493,-24.8 500,-18.5 524,7 ; 504,26 cw(c499.15,0.86) 524,7 ; 675,-4.68 700,21 704,26 ; 675,-4.68 ccw(c699.73,-0.67) 693,-24.8 ; 693,-24.8 700,-18.5 724,7 ; 704,26 cw(c699.15,0.86) 724,7 ; 875,-4.68 900,21 904,26 ; 875,-4.68 ccw(c899.73,-0.67) 893,-24.8 ; 893,-24.8 900,-18.5 924,7 ; 904,26 cw(c899.15,0.86) 924,7